# Altium footprint library TRIM_CAP.PcbLib: 4 footprints
Each footprint in its own frame and in the unit in brackets; x right, y up, seen from the top. Pads: shape width x height; smd on the part's side, far side on the other; paste and mask are expansions set on the pad; w line width, h text height; cw(c..) or ccw(c..) is an arc to the next point about the centre after c.
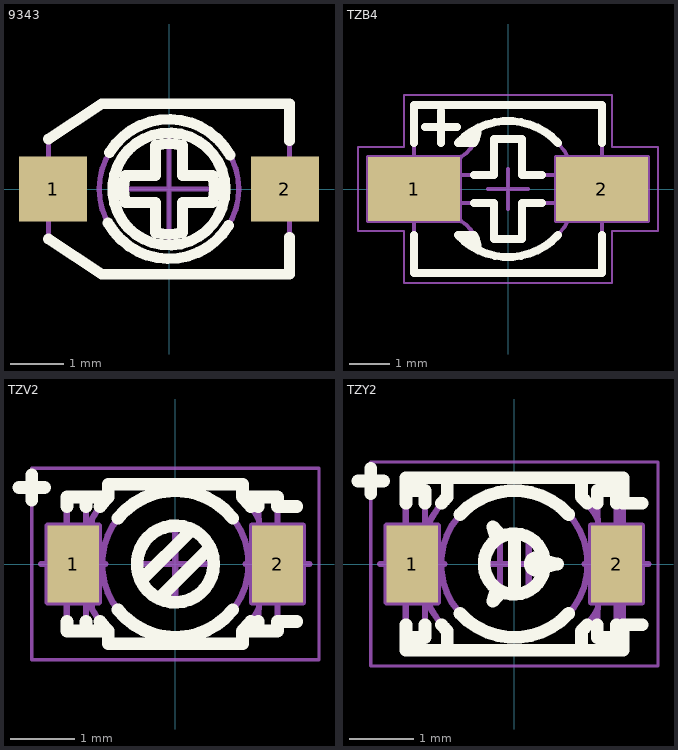
[diagram p0: the footprints below, top view; thin cyan lines are the x and y axes]

## 9343 [mil] "JOHANSON 9343 Serie, Single Turn Trimmer Capacitor, Body 4.49x3.175mm"
height 70.08
pads (2):
  rect 50x48 smd: 1(-85,0) 2(85,0)
Top Overlay:
  circle w7.87: c0,0 r41.23
  lines w7.87: -88.39,-36.67 -49.41,-62.5 88.39,-62.5 88.39,-35.43 ; -88.39,36.67 -49.41,62.5 88.39,62.5 88.39,35.43 ; -44.66,-25.01 ccw(c0,0) 43.62,-26.77 ; -43.62,26.77 cw(c0,0) 44.66,25.01 ; -31.87,-9.84 cw(c0,0) -31.87,9.84 -9.84,9.84 -9.84,31.87 cw(c0,0) 9.84,31.87 9.84,9.84 31.87,9.84 cw(c0,0) 31.87,-9.84 9.84,-9.84 9.84,-31.87 cw(c0,0) -9.84,-31.87 -9.84,-9.84 -31.87,-9.84
Mechanical 8:
  lines w3.94: -39.37,0 0,0 ; 0,-39.37 0,0 ; 0,39.37 0,0 ; 39.37,0 0,0
Mechanical 14:
  circle w3.94: c0,0 r41.23
  circle w3.94: c0,0 r51.18
  lines w3.94: -72.64,-15.5 -88.39,-15.5 -88.39,15.5 -72.64,15.5 ; -31.87,-9.84 -9.84,-9.84 -9.84,-31.87 ccw(c0,0) 9.84,-31.87 9.84,-9.84 31.87,-9.84 ; -31.87,9.84 -9.84,9.84 -9.84,31.87 cw(c0,0) 9.84,31.87 9.84,9.84 31.87,9.84 ; 72.64,-15.5 88.39,-15.5 88.39,15.5 72.64,15.5 ; 31.87,-9.84 ccw(c0,0) 31.87,9.84 ; 31.87,-9.84 ccw(c0,0) 31.87,9.84 ; -88.39,-36.67 -88.39,-19.69 -72.64,-19.69 -72.64,19.69 -88.39,19.69 -88.39,36.67 -49.41,62.5 88.39,62.5 88.39,19.69 72.64,19.69 72.64,-19.69 88.39,-19.69 88.39,-62.5 -49.41,-62.5 -88.39,-36.67
3D body "CAPV_JOHANSON_9343.stp": height 70, standoff 0, extent -88.38,-62.5 88.39,62.5

## TZB4 [mm] "MURATA TZB4 Series, Ceramic Trimmer Capacitor, Body 4.5 x 4.2mm"
height 3.2
pads (2):
  rect 2.3x1.6 smd: 1(-2.35,0) 2(2.35,0)
Top Overlay:
  lines w0.2: -2.35,-1.15 -2.35,-2.1 2.35,-2.1 2.35,-1.15 ; -2.35,1.15 -2.35,2.1 2.35,2.1 2.35,1.15 ; -2.077,1.55 -1.277,1.55 ; -1.677,1.15 -1.677,1.95 ; -1.152,-1.25 -0.804,-1.25 ; -1.152,1.25 -0.804,1.25 ; -1.033,-1.35 -0.775,-1.35 ; -1.033,1.35 -0.775,1.35 ; -0.887,-1.45 -0.759,-1.45 ; -0.887,1.45 -0.759,1.45 ; -0.85,-0.35 -0.35,-0.35 -0.35,-1.25 0.35,-1.25 0.35,-0.35 0.85,-0.35 ; -0.85,0.35 -0.35,0.35 -0.35,1.25 0.35,1.25 0.35,0.35 0.85,0.35 ; -0.754,-1.523 ccw(c-1.615,-1.539) -0.847,-1.15 -1.252,-1.15 ccw(c0,0) 1.252,-1.15 ; -0.754,1.523 cw(c-1.615,1.539) -0.847,1.15 -1.252,1.15 cw(c0,0) 1.252,1.15
Mechanical 8:
  lines w0.1: -2.85,0 -2.35,0 ; -2.35,-0.5 -2.35,0 ; -2.35,0.5 -2.35,0 ; -1.85,0 -2.35,0 ; -0.5,0 0,0 ; 0,-0.5 0,0 ; 0,0.5 0,0 ; 0.5,0 0,0 ; 1.85,0 2.35,0 ; 2.35,-0.5 2.35,0 ; 2.35,0.5 2.35,0 ; 2.85,0 2.35,0 ; -3.5,-0.8 -3.5,0.8 -1.2,0.8 -1.2,-0.8 -3.5,-0.8 ; 1.2,-0.8 1.2,0.8 3.5,0.8 3.5,-0.8 1.2,-0.8
Mechanical 14:
  lines w0.1: -2.077,1.55 -1.277,1.55 ; -1.677,1.15 -1.677,1.95 ; -2.35,-2.1 -2.35,2.1 2.35,2.1 2.35,-2.1 -2.35,-2.1 ; -1.558,-0.681 cw(c-1.615,-1.539) -0.754,-1.523 ccw(c0,0) -0.754,1.523 cw(c-1.615,1.539) -1.558,0.681 ccw(c0.062,0) -1.558,-0.681 ; -1.25,-0.35 -1.25,0.35 -0.35,0.35 -0.35,1.25 0.35,1.25 0.35,0.35 1.25,0.35 1.25,-0.35 0.35,-0.35 0.35,-1.25 -0.35,-1.25 -0.35,-0.35 -1.25,-0.35
Mechanical 15:
  lines w0.05: -3.75,-1.05 -3.75,1.05 -2.6,1.05 -2.6,2.35 2.6,2.35 2.6,1.05 3.75,1.05 3.75,-1.05 2.6,-1.05 2.6,-2.35 -2.6,-2.35 -2.6,-1.05 -3.75,-1.05
3D body "CAPV_MURATA_TZB4_TYPE A.stp": height 3.2, standoff 0, extent -2.5,-2.1 2.5,2.1

## TZV2 [mm] "MURATA TZV2 Serie, Ceramic Trimmer Capacitor, Body 2.3 x 3.2mm"
height 1.45
pads (2):
  rect 0.8x1.2 smd: 1(-1.6,0) 2(1.6,0)
Top Overlay:
  circle w0.2: c0,0 r0.6
  lines w0.2: -2.45,1.2 -2.25,1.2 ; -2.25,1 -2.25,1.2 ; -2.25,1.4 -2.25,1.2 ; -2.05,1.2 -2.25,1.2 ; -1.7,-0.9 -1.7,-1.05 -1.05,-1.05 ; -1.7,0.9 -1.7,1.05 -1.05,1.05 ; -1.4,-1.05 -1.4,-0.9 ; -1.4,0.9 -1.4,1.05 ; -1.181,-0.9 ccw(c0,0) -1.05,-1.05 ; -1.181,0.9 cw(c0,0) -1.05,1.05 ; -0.9,-0.716 ccw(c0,0) 0.9,-0.716 ; -0.9,0.716 cw(c0,0) 0.9,0.716 ; -0.541,-0.259 0.259,0.541 ; -0.259,-0.541 0.541,0.259 ; 1.181,-0.9 cw(c0,0) 1.05,-1.05 ; 1.181,0.9 ccw(c0,0) 1.05,1.05 ; 1.3,-1.05 1.3,-0.9 ; 1.3,0.9 1.3,1.05 ; 1.9,-0.9 1.6,-0.9 1.6,-1.05 1.05,-1.05 ; 1.9,0.9 1.6,0.9 1.6,1.05 1.05,1.05 ; -1.05,-1.05 -1.05,-1.25 1.05,-1.25 1.05,-1.05 ; -1.05,1.05 -1.05,1.25 1.05,1.25 1.05,1.05
Mechanical 8:
  lines w0.1: -2.1,0 -1.6,0 ; -1.6,-0.5 -1.6,0 ; -1.6,0.5 -1.6,0 ; -1.1,0 -1.6,0 ; -0.5,0 0,0 ; 0,-0.5 0,0 ; 0,0.5 0,0 ; 0.5,0 0,0 ; 1.1,0 1.6,0 ; 1.6,-0.5 1.6,0 ; 1.6,0.5 1.6,0 ; 2.1,0 1.6,0 ; -2,-0.6 -1.2,-0.6 -1.2,0.6 -2,0.6 -2,-0.6 ; 1.2,-0.6 1.2,0.6 2,0.6 2,-0.6 1.2,-0.6
Mechanical 14:
  circle w0.1: c0,0 r0.6
  circle w0.1: c0,0 r1.15
  lines w0.1: -2.45,1.2 -2.25,1.2 ; -2.25,1 -2.25,1.2 ; -2.25,1.4 -2.25,1.2 ; -2.05,1.2 -2.25,1.2 ; -1.4,-1.05 -1.4,1.05 ; -0.541,-0.259 0.259,0.541 ; -0.259,-0.541 0.541,0.259 ; 1.3,-1.05 1.3,-0.718 ; 1.3,0.718 1.3,1.05 ; 1.6,-0.55 1.6,-1.05 1.05,-1.05 ; 1.6,0.55 1.6,1.05 1.05,1.05 ; -1.05,-1.05 cw(c0,0) -1.31,-0.7 -1.31,0.7 cw(c0,0) -1.05,1.05 ; -1.05,-1.05 -1.7,-1.05 -1.7,1.05 -1.05,1.05 ; -1.05,-1.05 -1.05,-1.25 1.05,-1.25 1.05,-1.05 ; -1.05,1.05 -1.05,1.25 1.05,1.25 1.05,1.05 ; 1.05,-1.05 ccw(c0,0) 1.31,-0.7 1.31,-0.55 1.7,-0.55 1.7,0.55 1.31,0.55 1.31,0.7 ccw(c0,0) 1.05,1.05
Mechanical 15:
  lines w0.05: -2.25,-1.5 -2.25,1.5 2.25,1.5 2.25,-1.5 -2.25,-1.5
3D body "CAPV_MURATA_TZV2.stp": height 1.45, standoff 0, extent -1.7,-1.25 1.7,1.25

## TZY2 [mm] "MURATA TZY2 Serie, Ceramic Trimmer Capacitor, Body 2.5 x 3.2mm"
height 1.25
pads (2):
  rect 0.8x1.2 smd: 1(-1.6,0) 2(1.6,0)
Top Overlay:
  circle w0.2: c0.35,0 r0.1
  circle w0.2: c0,0 r0.475
  lines w0.2: -2.45,1.3 -2.25,1.3 ; -2.25,1.1 -2.25,1.3 ; -2.25,1.5 -2.25,1.3 ; -2.05,1.3 -2.25,1.3 ; -1.7,-1.15 -1.4,-1.15 -1.4,-0.95 ; -1.7,-0.95 -1.7,-1.35 1.7,-1.35 1.7,-0.95 2,-0.95 ; -1.7,0.95 -1.7,1.35 1.7,1.35 1.7,0.95 2,0.95 ; -1.7,1.15 -1.4,1.15 -1.4,0.95 ; -1.141,-0.95 ccw(c0,0) -1.05,-1.05 -1.05,-1.35 ; -1.141,0.95 cw(c0,0) -1.05,1.05 -1.05,1.35 ; -0.85,-0.775 ccw(c0,0) 0.85,-0.775 ; -0.85,0.775 cw(c0,0) 0.85,0.775 ; -0.279,-0.384 -0.337,-0.585 -0.193,-0.434 ; -0.279,0.384 -0.337,0.585 -0.193,0.434 ; 0,-0.418 0,0.418 ; 0.472,-0.05 0.675,0 0.472,0.05 ; 1.05,-1.35 1.05,-1.05 ccw(c0,0) 1.141,-0.95 ; 1.05,1.15 1.05,1.05 ; 1.05,1.35 1.05,1.05 ; 1.141,0.95 ccw(c0,0) 1.05,1.05 ; 1.3,-0.95 1.3,-1.15 1.6,-1.15 1.6,-0.95 ; 1.3,0.95 1.3,1.15 1.6,1.15 1.6,0.95
Mechanical 8:
  lines w0.1: -2.1,0 -1.6,0 ; -1.6,-0.5 -1.6,0 ; -1.6,0.5 -1.6,0 ; -1.1,0 -1.6,0 ; -0.5,0 0,0 ; 0,-0.5 0,0 ; 0,0.5 0,0 ; 0.5,0 0,0 ; 1.1,0 1.6,0 ; 1.6,-0.5 1.6,0 ; 1.6,0.5 1.6,0 ; 2.1,0 1.6,0 ; -2,-0.6 -1.2,-0.6 -1.2,0.6 -2,0.6 -2,-0.6 ; 1.2,-0.6 2,-0.6 2,0.6 1.2,0.6 1.2,-0.6
Mechanical 14:
  circle w0.1: c0.35,0 r0.1
  circle w0.1: c0,0 r1.15
  circle w0.1: c0,0 r0.475
  lines w0.1: -2.45,1.3 -2.25,1.3 ; -2.25,1.1 -2.25,1.3 ; -2.25,1.5 -2.25,1.3 ; -2.05,1.3 -2.25,1.3 ; -1.7,-1.15 -1.4,-1.15 -1.4,-0.495 ; -1.7,1.15 -1.4,1.15 -1.4,0.495 ; -1.05,-1.35 -1.05,-1.05 cw(c0,0) -1.05,1.05 -1.05,1.35 ; -0.279,-0.384 -0.337,-0.585 -0.193,-0.434 ; -0.279,0.384 -0.337,0.585 -0.193,0.434 ; -0.225,-0.418 -0.225,0.418 ; 0.225,-0.418 0.225,0.418 ; 0.472,-0.05 0.675,0 0.472,0.05 ; 1.05,-1.35 1.05,-1.05 ccw(c0,0) 1.31,-0.7 1.31,-0.55 1.7,-0.55 ; 1.05,1.15 1.05,1.05 ; 1.05,1.35 1.05,1.05 ; 1.3,-0.718 1.3,-1.15 1.6,-1.15 1.6,-0.55 ; 1.3,0.718 1.3,1.15 1.6,1.15 1.6,0.55 ; 1.7,0.55 1.31,0.55 1.31,0.7 ccw(c0,0) 1.05,1.05 ; -1.7,-1.35 -1.7,1.35 1.7,1.35 1.7,-1.35 -1.7,-1.35
Mechanical 15:
  lines w0.05: -2.25,-1.6 -2.25,1.6 2.25,1.6 2.25,-1.6 -2.25,-1.6
3D body "CAPV_MURATA_TZY2.stp": height 1.25, standoff 0, extent -1.7,-1.35 1.7,1.35